# Altium footprint library E32-PcbLib.PcbLib: 17 footprints (part 2 of 2)
Each footprint in its own frame and in the unit in brackets; x right, y up, seen from the top. Pads: shape width x height; smd on the part's side, far side on the other; paste and mask are expansions set on the pad; w line width, h text height; cw(c..) or ccw(c..) is an arc to the next point about the centre after c.
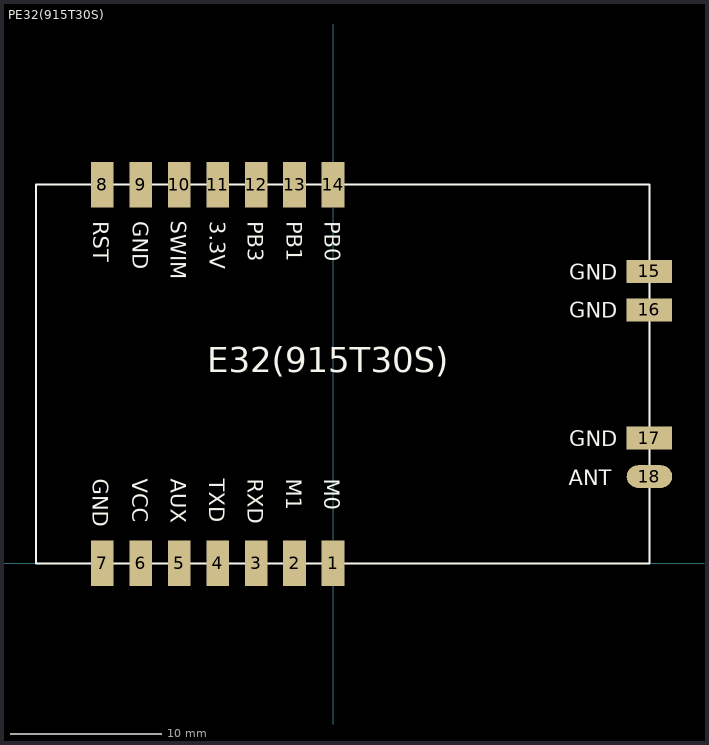
[diagram p1: the footprint, top view; thin cyan lines are the x and y axes]

## PE32(915T30S) [mm] "40.5mm*25mm*3.80mm-S"
pads (18):
  rect 1.5x3 smd: 1(0,0) 2(-2.54,0) 3(-5.08,0) 4(-7.62,0) 5(-10.16,0) 6(-12.7,0) 7(-15.24,0) 8(-15.24,25) 9(-12.7,25) 10(-10.16,25) 11(-7.62,25) 12(-5.08,25) 13(-2.54,25) 14(0,25)
  rect 3x1.5 smd: 15(20.88,19.27) 16(20.88,16.73) 17(20.88,8.27)
  oval 3x1.5 smd: 18(20.88,5.73)
Top Overlay:
  lines w0.127: -19.62,0 -19.62,25 20.88,25 20.88,0 -19.62,0
  text "E32(915T30S)" at -8.317,12.065 h2.8
  text "GND" at 15.602,7.72 h1
  text "ANT" at 15.554,5.17 h1
  text "M0" at -0.577,5.575 h1
  text "M1" at -3.087,5.575 h1
  text "RXD" at -5.637,5.575 h1
  text "TXD" at -8.167,5.575 h1
  text "AUX" at -10.707,5.575 h1
  text "VCC" at -13.257,5.575 h1
  text "GND" at -15.847,5.575 h1
  text "RST" at -15.827,22.592 h1
  text "GND" at -13.237,22.592 h1
  text "3.3V" at -8.147,22.592 h1
  text "PB3" at -5.617,22.592 h1
  text "PB1" at -3.067,22.592 h1
  text "PB0" at -0.557,22.592 h1
  text "GND" at 15.602,16.22 h1
  text "GND" at 15.602,18.73 h1
  text "SWIM" at -10.73,22.606 h1